# Altium schematic symbol library PCB_Project.SCHLIB: 10 symbols
Pins are listed as number, name and electrical type; pins without a type are passive.

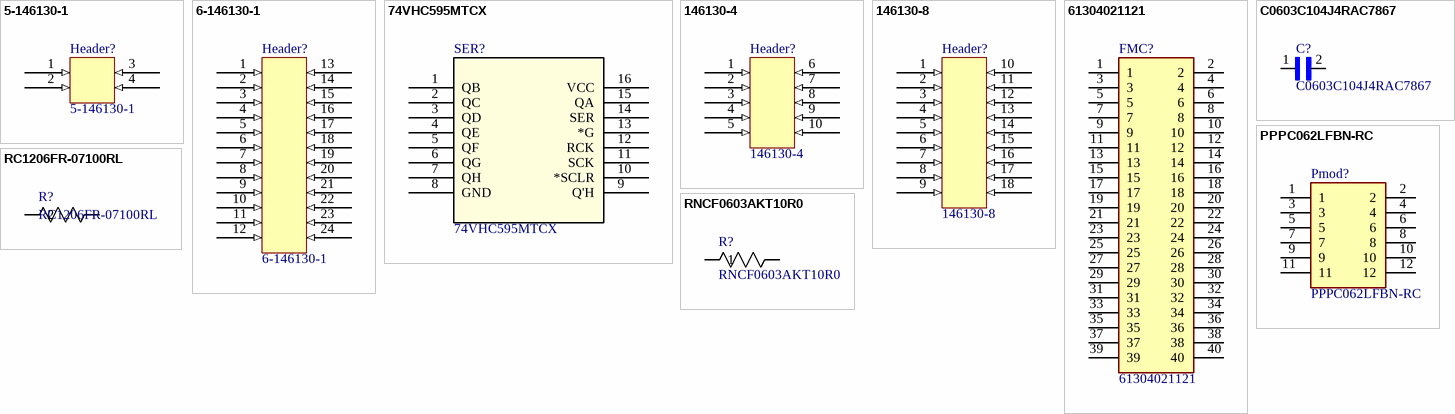
[diagram p0: symbols 5-146130-1 to RNCF0603AKT10R0]

## 5-146130-1
designator Header?
2*2 Header
footprint CONN_5-146130-7_TYCO - duplicate - duplicate - duplicate - duplicate
pins: 1 (in), 2 (in), 3 (in), 4 (in)

## 6-146130-1
designator Header?
2*12 Header
footprint CONN_5-146130-7_TYCO - duplicate
pins: 1 (in), 2 (in), 3 (in), 4 (in), 5 (in), 6 (in), 7 (in), 8 (in), 9 (in), 10 (in), 11 (in), 12 (in), 13 (in), 14 (in), 15 (in), 16 (in), 17 (in), 18 (in), 19 (in), 20 (in), 21 (in), 22 (in), 23 (in), 24 (in)

## 74VHC595MTCX
designator SER?
No Description Available; Mfr_Name: onsemi; Copyright: Copyright (C) 2022 Ultra Librarian. All rights reserved.; Manufacturer_Part_Number: 74VHC595MTCX; Digi-Key_Part_Number_1: 74VHC595MTCXTR-ND; Digi-Key_Part_Number_2: 74VHC595MTCXCT-ND; Digi-Key_Part_Number_3: 74VHC595MTCXDKR-ND; RefDes: RefDes; Type: DEV
footprint TSSOP16_5X4P5_ONS
pins: 1 QB, 2 QC, 3 QD, 4 QE, 5 QF, 6 QG, 7 QH, 8 GND, 9 Q'H, 10 *SCLR, 11 SCK, 12 RCK, 13 *G, 14 SER, 15 QA, 16 VCC (power)

## 146130-4
designator Header?
2*5 Header
footprint CONN_5-146130-7_TYCO - duplicate - duplicate - duplicate
pins: 1 (in), 2 (in), 3 (in), 4 (in), 5 (in), 6 (in), 7 (in), 8 (in), 9 (in), 10 (in)

## 146130-8
designator Header?
2*9 Header
footprint CONN_5-146130-7_TYCO - duplicate - duplicate
pins: 1 (in), 2 (in), 3 (in), 4 (in), 5 (in), 6 (in), 7 (in), 8 (in), 9 (in), 10 (in), 11 (in), 12 (in), 13 (in), 14 (in), 15 (in), 16 (in), 17 (in), 18 (in)

## 61304021121
designator FMC?
Connector; Manufacturer_Name: Wurth Elektronik; Datasheet Link: https://katalog.we-online.com/em/datasheet/6130xx21121.pdf; Height: 8.69mm; Manufacturer_Part_Number: 61304021121; Mouser Part Number: 710-61304021121; Mouser Price/Stock: https://www.mouser.co.uk/ProductDetail/Wurth-Elektronik/61304021121?qs=PhR8RmCirEYWKI5WqdDUyg%3D%3D
footprint HDRV40W64P254X254_2X20_5080X508X869P
pins: 1, 2, 3, 4, 5, 6, 7, 8, 9, 10, 11, 12, 13, 14, 15, 16, 17, 18, 19, 20, 21, 22, 23, 24, 25, 26, 27, 28, 29, 30, 31, 32, 33, 34, 35, 36, 37, 38, 39, 40

## C0603C104J4RAC7867
designator C?
Cap Ceramic 0.1uF 16V X7R 5% SMD 1.6 x 0.8 mm 125 C Paper T/R; MF: KEMET; Price: None; Availability: In Stock; Value: *; MP: C0603C104J4RAC7867; Check_prices: https://www.snapeda.com/parts/C0603C104J4RAC7867/KEMET/view-part/?ref=eda; Purchase-URL: https://pricing.snapeda.com/search/part/C0603C104J4RAC7867/?ref=eda; SnapEDA_Link: https://www.snapeda.com/parts/C0603C104J4RAC7867/KEMET/view-part/?ref=snap; Package: 0603 KEMET
footprint CAPC1608X90N
pins: 1, 2

## PPPC062LFBN-RC
designator Pmod?
Connector; Manufacturer_Name: Sullins; Datasheet Link: https://drawings-pdf.s3.amazonaws.com/10492.pdf; Height: 8.5mm; Manufacturer_Part_Number: PPPC062LFBN-RC
footprint RHDR12W80P254_2X6_1574X508X850P
pins: 1, 2, 3, 4, 5, 6, 7, 8, 9, 10, 11, 12

## RC1206FR-07100RL
designator R?
No Description Available; Mfr_Name: Yageo; Copyright: Copyright (C) 2022 Ultra Librarian. All rights reserved.; Manufacturer_Part_Number: RC1206FR-07100RL; Digi-Key_Part_Number_1: 311-100FRCT-ND; Digi-Key_Part_Number_2: 311-100FRDKR-ND; Digi-Key_Part_Number_3: 311-100FRTR-ND; Digi-Key_Part_Number_4: 311-100FRTR-NDL; RefDes: RefDes; Type: DEV
footprint RC1206N_YAG
pins: 1, 2

## RNCF0603AKT10R0
designator R?
10Ohm; Mfr_Name: Stackpole International; Copyright: Copyright (C) 2023 Ultra Librarian. All rights reserved.; Manufacturer_Part_Number: RNCF0603AKT10R0; RefDes: RefDes; Type: DEV
footprint RES_RNCF0603_STP
pins: 1, 2